# EAGLE library part PIC24FJNNNBG106 (library 1dah)
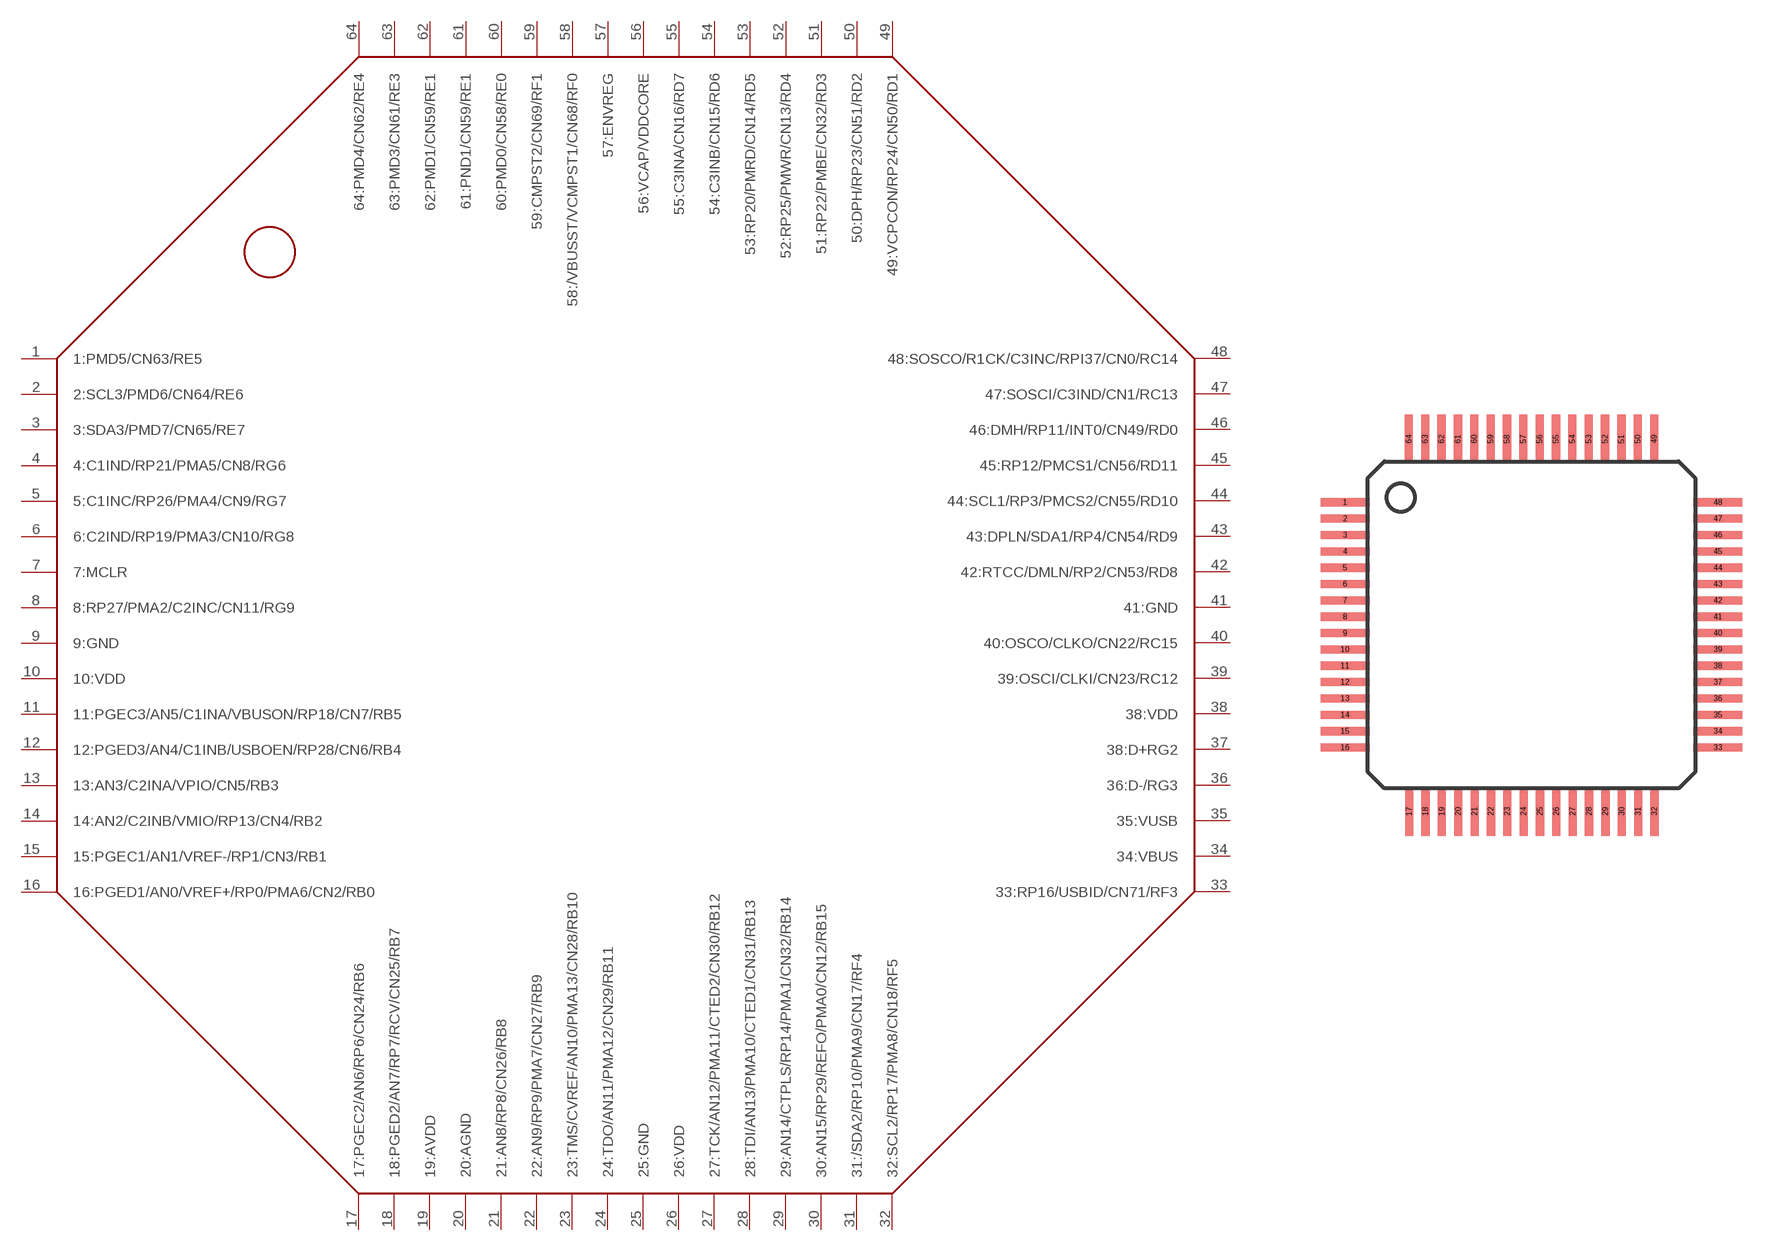
[diagram p22: symbol with the pads of TQFP64; footprint TQFP64]

Designator prefix -

## PIC24FJNNNBG106  [TQFP64]
1  1:PMD5/CN63/RE5
2  2:SCL3/PMD6/CN64/RE6
3  3:SDA3/PMD7/CN65/RE7
4  4:C1IND/RP21/PMA5/CN8/RG6
5  5:C1INC/RP26/PMA4/CN9/RG7
6  6:C2IND/RP19/PMA3/CN10/RG8
7  7:MCLR
8  8:RP27/PMA2/C2INC/CN11/RG9
9  9:GND
10  10:VDD
11  11:PGEC3/AN5/C1INA/VBUSON/RP18/CN7/RB5
12  12:PGED3/AN4/C1INB/USBOEN/RP28/CN6/RB4
13  13:AN3/C2INA/VPIO/CN5/RB3
14  14:AN2/C2INB/VMIO/RP13/CN4/RB2
15  15:PGEC1/AN1/VREF-/RP1/CN3/RB1
16  16:PGED1/AN0/VREF+/RP0/PMA6/CN2/RB0
17  17:PGEC2/AN6/RP6/CN24/RB6
18  18:PGED2/AN7/RP7/RCV/CN25/RB7
19  19:AVDD
20  20:AGND
21  21:AN8/RP8/CN26/RB8
22  22:AN9/RP9/PMA7/CN27/RB9
23  23:TMS/CVREF/AN10/PMA13/CN28/RB10
24  24:TDO/AN11/PMA12/CN29/RB11
25  25:GND
26  26:VDD
27  27:TCK/AN12/PMA11/CTED2/CN30/RB12
28  28:TDI/AN13/PMA10/CTED1/CN31/RB13
29  29:AN14/CTPLS/RP14/PMA1/CN32/RB14
30  30:AN15/RP29/REFO/PMA0/CN12/RB15
31  31:/SDA2/RP10/PMA9/CN17/RF4
32  32:SCL2/RP17/PMA8/CN18/RF5
33  33:RP16/USBID/CN71/RF3
34  34:VBUS
35  35:VUSB
36  36:D-/RG3
37  38:D+RG2
38  38:VDD
39  39:OSCI/CLKI/CN23/RC12
40  40:OSCO/CLKO/CN22/RC15
41  41:GND
42  42:RTCC/DMLN/RP2/CN53/RD8
43  43:DPLN/SDA1/RP4/CN54/RD9
44  44:SCL1/RP3/PMCS2/CN55/RD10
45  45:RP12/PMCS1/CN56/RD11
46  46:DMH/RP11/INT0/CN49/RD0
47  47:SOSCI/C3IND/CN1/RC13
48  48:SOSCO/R1CK/C3INC/RPI37/CN0/RC14
49  49:VCPCON/RP24/CN50/RD1
50  50:DPH/RP23/CN51/RD2
51  51:RP22/PMBE/CN32/RD3
52  52:RP25/PMWR/CN13/RD4
53  53:RP20/PMRD/CN14/RD5
54  54:C3INB/CN15/RD6
55  55:C3INA/CN16/RD7
56  56:VCAP/VDDCORE
57  57:ENVREG
58  58:/VBUSST/VCMPST1/CN68/RF0
59  59:CMPST2/CN69/RF1
60  60:PMD0/CN58/RE0
61  61:PND1/CN59/RE1
62  62:PMD1/CN59/RE1
63  63:PMD3/CN61/RE3
64  64:PMD4/CN62/RE4

## Footprint TQFP64 (pad centres in mm)
smd 1.5 x 0.25: 1 -5.7,3.75; 2 -5.7,3.25; 3 -5.7,2.75; 4 -5.7,2.25; 5 -5.7,1.75; 6 -5.7,1.25; 7 -5.7,0.75; 8 -5.7,0.25; 9 -5.7,-0.25; 10 -5.7,-0.75; 11 -5.7,-1.25; 12 -5.7,-1.75; 13 -5.7,-2.25; 14 -5.7,-2.75; 15 -5.7,-3.25; 16 -5.7,-3.75; 33 5.7,-3.75; 34 5.7,-3.25; 35 5.7,-2.75; 36 5.7,-2.25; 37 5.7,-1.75; 38 5.7,-1.25; 39 5.7,-0.75; 40 5.7,-0.25; 41 5.7,0.25; 42 5.7,0.75; 43 5.7,1.25; 44 5.7,1.75; 45 5.7,2.25; 46 5.7,2.75; 47 5.7,3.25; 48 5.7,3.75
smd 0.25 x 1.5: 17 -3.74,-5.7; 18 -3.24,-5.7; 19 -2.74,-5.7; 20 -2.24,-5.7; 21 -1.74,-5.7; 22 -1.24,-5.7; 23 -0.74,-5.7; 24 -0.24,-5.7; 25 0.26,-5.7; 26 0.76,-5.7; 27 1.26,-5.7; 28 1.76,-5.7; 29 2.26,-5.7; 30 2.76,-5.7; 31 3.26,-5.7; 32 3.76,-5.7; 49 3.75,5.69; 50 3.25,5.69; 51 2.75,5.69; 52 2.25,5.69; 53 1.75,5.69; 54 1.25,5.69; 55 0.75,5.69; 56 0.25,5.69; 57 -0.25,5.69; 58 -0.75,5.69; 59 -1.25,5.69; 60 -1.75,5.69; 61 -2.25,5.69; 62 -2.75,5.69; 63 -3.25,5.69; 64 -3.75,5.69